# Altium footprint library 1-2199230-5.PcbLib: 1 footprints
Each footprint in its own frame and in the unit in brackets; x right, y up, seen from the top. Pads: shape width x height; smd on the part's side, far side on the other; paste and mask are expansions set on the pad; w line width, h text height; cw(c..) or ccw(c..) is an arc to the next point about the centre after c.
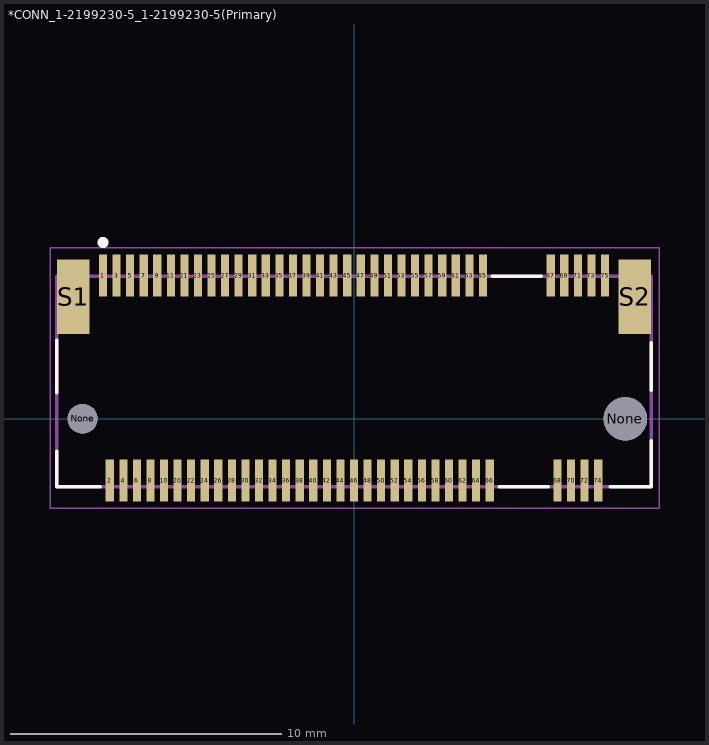
[diagram p0: the footprint, top view; thin cyan lines are the x and y axes]

## *CONN_1-2199230-5_1-2199230-5(Primary) [mm]
pads (71):
  rect 0.3x1.55 smd: 1(-9.25,5.275) 2(-9,-2.275) 3(-8.75,5.275) 4(-8.5,-2.275) 5(-8.25,5.275) 6(-8,-2.275) 7(-7.75,5.275) 8(-7.5,-2.275) 9(-7.25,5.275) 10(-7,-2.275) 11(-6.75,5.275) 20(-6.5,-2.275) 21(-6.25,5.275) 22(-6,-2.275) 23(-5.75,5.275) 24(-5.5,-2.275) 25(-5.25,5.275) 26(-5,-2.275) 27(-4.75,5.275) 28(-4.5,-2.275) 29(-4.25,5.275) 30(-4,-2.275) 31(-3.75,5.275) 32(-3.5,-2.275) 33(-3.25,5.275) 34(-3,-2.275) 35(-2.75,5.275) 36(-2.5,-2.275) 37(-2.25,5.275) 38(-2,-2.275) 39(-1.75,5.275) 40(-1.5,-2.275) 41(-1.25,5.275) 42(-1,-2.275) 43(-0.75,5.275) 44(-0.5,-2.275) 45(-0.25,5.275) 46(0,-2.275) 47(0.25,5.275) 48(0.5,-2.275) 49(0.75,5.275) 50(1,-2.275) 51(1.25,5.275) 52(1.5,-2.275) 53(1.75,5.275) 54(2,-2.275) 55(2.25,5.275) 56(2.5,-2.275) 57(2.75,5.275) 58(3,-2.275) 59(3.25,5.275) 60(3.5,-2.275) 61(3.75,5.275) 62(4,-2.275) 63(4.25,5.275) 64(4.5,-2.275) 65(4.75,5.275) 66(5,-2.275) 67(7.25,5.275) 68(7.5,-2.275) 69(7.75,5.275) 70(8,-2.275) 71(8.25,5.275) 72(8.5,-2.275) 73(8.75,5.275) 74(9,-2.275) 75(9.25,5.275)
  round 1.1 hole 1.1 unplated: None(-10,0)
  round 1.6 hole 1.6 unplated: None(10,0)
  rect 1.2x2.75 smd: S1(-10.35,4.5) S2(10.35,4.5)
Top Overlay:
  circle w0.2: c-9.25,6.5 r0.1
  lines w0.127: -10.95,-1.2 -10.95,-2.5 -9.35,-2.5 ; -10.95,0.95 -10.95,2.9 ; 5.1,5.25 6.9,5.25 ; 5.35,-2.5 7.15,-2.5 ; 9.45,-2.5 10.95,-2.5 10.95,-0.8 ; 10.95,1.05 10.95,2.8
Mechanical 13:
  lines w0.127: -10.95,-2.5 10.95,-2.5 ; -10.95,-2.5 -10.95,5.25 ; -10.95,-2.5 10.95,-2.5 ; -10.95,-2.5 -10.95,5.25 ; -10.95,5.25 10.95,5.25 ; -10.95,5.25 10.95,5.25 ; 10.95,-2.5 10.95,5.25 ; 10.95,-2.5 10.95,5.25
Mechanical 15:
  lines w0.05: -11.2,-3.3 -11.2,6.3 11.25,6.3 11.25,-3.3 -11.2,-3.3